# Altium schematic symbol library AmbiqPhoenix.SCHLIB: 36 symbols
Pins are listed as number, name and electrical type; pins without a type are passive.

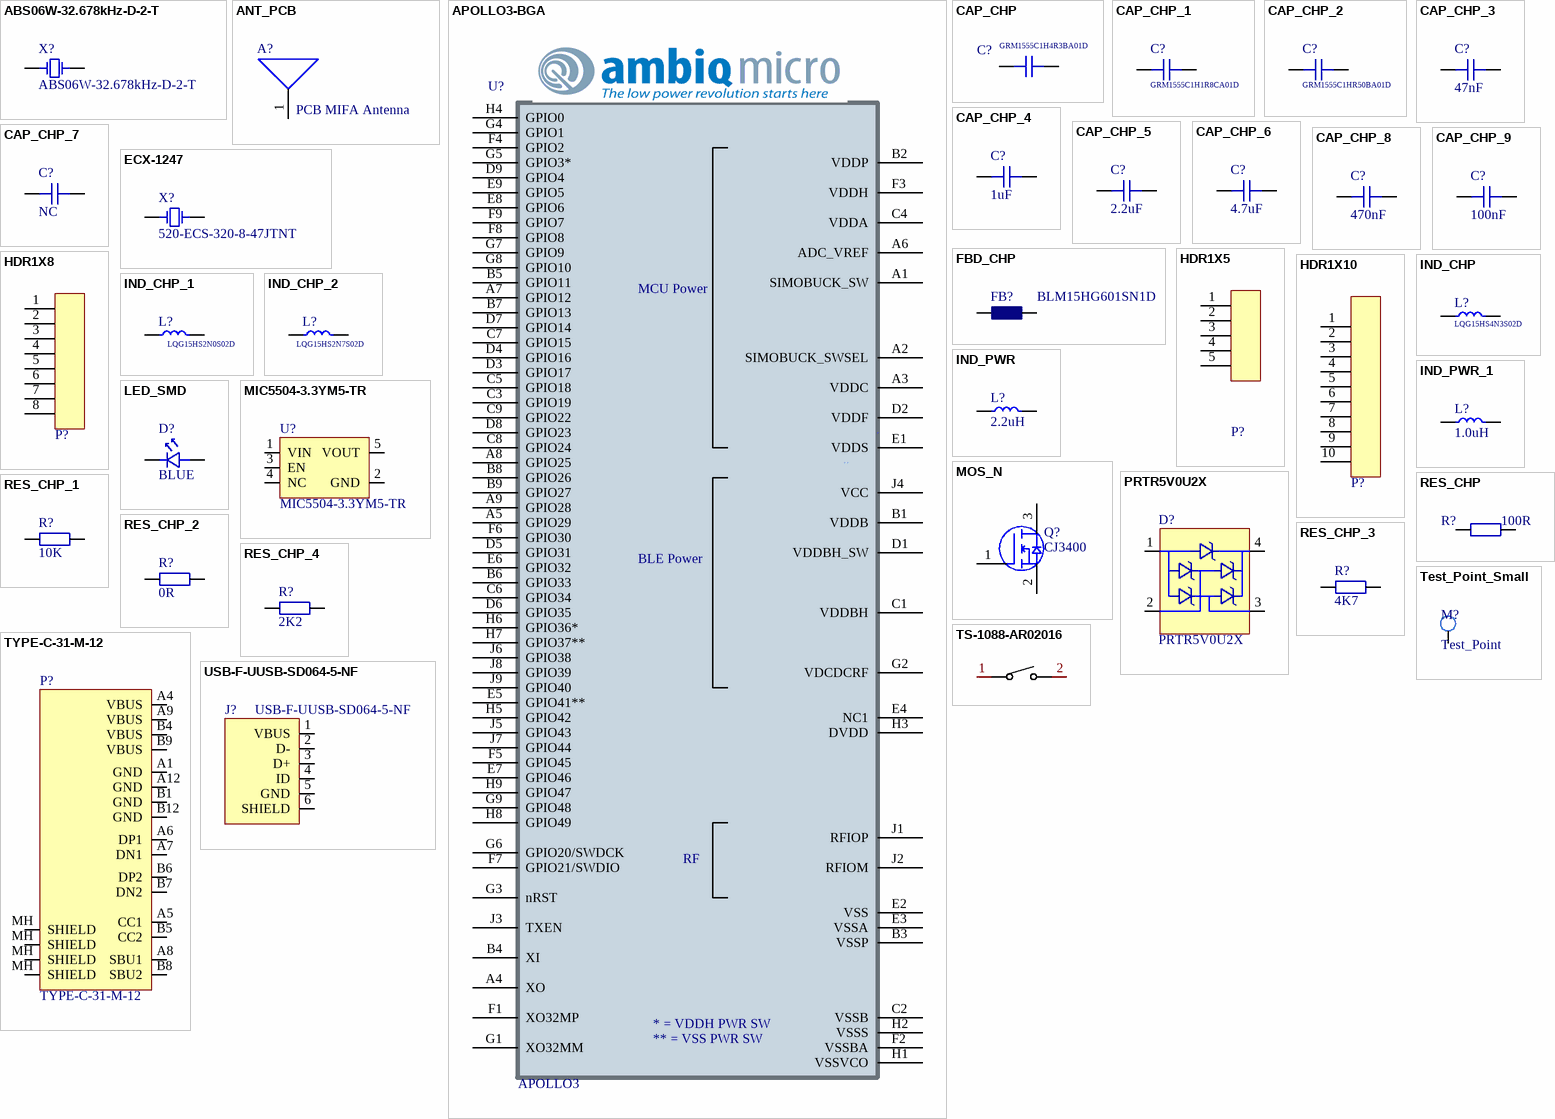
[diagram p0: symbols ABS06W-32.678kHz-D-2-T to USB-F-UUSB-SD064-5-NF]

## ABS06W-32.678kHz-D-2-T
designator X?
32.768KHZ IoT OPTIMIZED SMD CRYSTA
footprint ABS06W
pins: 1, 2

## ANT_PCB
designator A?, comment PCB MIFA Antenna  (net tie, no BOM)
2.4G Printed Antenna
footprint MIFA_ANTENNA
footprint IFA (Wonderful Antenna Sandbox Electronics Patent Pending)
footprint IFA_CC2530 (2.4GHz Inverted F Antenna)
footprint MIFA_CC2530
footprint MIFA_AMBIQ
pins: 1

## APOLLO3-BGA
designator U?, comment APOLLO3
APOLLO3-BGA; Manufacturer: Ambiq Micro; Part Number: APOLLO3; Value: APOLLO3
footprint BGA81C50P9X9_500X500X80
pins: A1 SIMOBUCK_SW, A2 SIMOBUCK_SWSEL, A3 VDDC, A4 XO, A5 GPIO29, A6 ADC_VREF, A7 GPIO12, A8 GPIO25, A9 GPIO28, B1 VDDB, B2 VDDP, B3 VSSP, B4 XI, B5 GPIO11, B6 GPIO33, B7 GPIO13, B8 GPIO26, B9 GPIO27, C1 VDDBH, C2 VSSB, C3 GPIO19, C4 VDDA, C5 GPIO18, C6 GPIO34, C7 GPIO15, C8 GPIO24, C9 GPIO22, D1 VDDBH_SW, D2 VDDF, D3 GPIO17, D4 GPIO16, D5 GPIO31, D6 GPIO35, D7 GPIO14, D8 GPIO23, D9 GPIO4, E1 VDDS, E2 VSS, E3 VSSA, E4 NC1, E5 GPIO41**, E6 GPIO32, E7 GPIO46, E8 GPIO6, E9 GPIO5, F1 XO32MP, F2 VSSBA, F3 VDDH, F4 GPIO2, F5 GPIO45, F6 GPIO30, F7 GPIO21/SWDIO, F8 GPIO8, F9 GPIO7, G1 XO32MM, G2 VDCDCRF, G3 nRST, G4 GPIO1, G5 GPIO3*, G6 GPIO20/SWDCK, G7 GPIO9, G8 GPIO10, G9 GPIO48, H1 VSSVCO, H2 VSSS, H3 DVDD, H4 GPIO0, H5 GPIO42, H6 GPIO36*, H7 GPIO37**, H8 GPIO49, H9 GPIO47, J1 RFIOP, J2 RFIOM, J3 TXEN, J4 VCC, J5 GPIO43, J6 GPIO38, J7 GPIO44, J8 GPIO39, J9 GPIO40
text: MCU Power; BLE Power; RF; * = VDDH PWR SW; ** = VSS PWR SW

## CAP_CHP
designator C?, comment GRM1555C1H4R3BA01D
Surface Mount Unpolarized Capacitor
footprint CAPC1608L (Chip Capacitor, Body 1.6x0.8mm, IPC High Density)
footprint CAPC1608M (Chip Capacitor, Body 1.6x0.8mm, IPC Low Density)
footprint CAPC1608N (Chip Capacitor, Body 1.6x0.8mm, IPC Medium Density)
footprint CAPC2012L (Chip Capacitor, Body 2.0x1.3mm, IPC High Density)
footprint CAPC2012M (Chip Capacitor, Body 2.0x1.3mm, IPC Low Density)
footprint CAPC2012N (Chip Capacitor, Body 2.0x1.3mm, IPC Medium Density)
footprint CAPC3216L (Chip Capacitor, Body 3.2x1.6mm, IPC High Density)
footprint CAPC3216M (Chip Capacitor, Body 3.2x1.6mm, IPC Low Density)
footprint CAPC3216N (Chip Capacitor, Body 3.2x1.6mm, IPC Medium Density)
footprint CAPC3225L (Chip Capacitor, Body 3.2x2.5mm, IPC High Density)
footprint CAPC3225M (Chip Capacitor, Body 3.2x2.5mm, IPC Low Density)
footprint CAPC3225N (Chip Capacitor, Body 3.2x2.5mm, IPC Medium Density)
footprint CAPC1005L (Chip Capacitor, Body 1.0x0.5mm, IPC High Density)
footprint CAPC1005M (Chip Capacitor, Body 1.0x0.5mm, IPC Low Density)
footprint CAPC1005N (Chip Capacitor, Body 1.0x0.5mm, IPC Medium Density)
footprint ECHU1608
footprint ECHU2012
footprint ECWU3216
footprint CAPC4532L (Chip Capacitor, Body 4.5x3.2mm, IPC High Density)
footprint CAPC4532M (Chip Capacitor, Body 4.5x3.2mm, IPC Low Density)
footprint CAPC4532N (Chip Capacitor, Body 4.5x3.2mm, IPC Medium Density)
pins: 1, 2

## CAP_CHP_1
designator C?, comment GRM1555C1H1R8CA01D
Surface Mount Unpolarized Capacitor
footprint CAPC1608L (Chip Capacitor, Body 1.6x0.8mm, IPC High Density)
footprint CAPC1608M (Chip Capacitor, Body 1.6x0.8mm, IPC Low Density)
footprint CAPC1608N (Chip Capacitor, Body 1.6x0.8mm, IPC Medium Density)
footprint CAPC2012L (Chip Capacitor, Body 2.0x1.3mm, IPC High Density)
footprint CAPC2012M (Chip Capacitor, Body 2.0x1.3mm, IPC Low Density)
footprint CAPC2012N (Chip Capacitor, Body 2.0x1.3mm, IPC Medium Density)
footprint CAPC3216L (Chip Capacitor, Body 3.2x1.6mm, IPC High Density)
footprint CAPC3216M (Chip Capacitor, Body 3.2x1.6mm, IPC Low Density)
footprint CAPC3216N (Chip Capacitor, Body 3.2x1.6mm, IPC Medium Density)
footprint CAPC3225L (Chip Capacitor, Body 3.2x2.5mm, IPC High Density)
footprint CAPC3225M (Chip Capacitor, Body 3.2x2.5mm, IPC Low Density)
footprint CAPC3225N (Chip Capacitor, Body 3.2x2.5mm, IPC Medium Density)
footprint CAPC1005L (Chip Capacitor, Body 1.0x0.5mm, IPC High Density)
footprint CAPC1005M (Chip Capacitor, Body 1.0x0.5mm, IPC Low Density)
footprint CAPC1005N (Chip Capacitor, Body 1.0x0.5mm, IPC Medium Density)
footprint ECHU1608
footprint ECHU2012
footprint ECWU3216
footprint CAPC4532L (Chip Capacitor, Body 4.5x3.2mm, IPC High Density)
footprint CAPC4532M (Chip Capacitor, Body 4.5x3.2mm, IPC Low Density)
footprint CAPC4532N (Chip Capacitor, Body 4.5x3.2mm, IPC Medium Density)
pins: 1, 2

## CAP_CHP_2
designator C?, comment GRM1555C1HR50BA01D
Surface Mount Unpolarized Capacitor
footprint CAPC1608L (Chip Capacitor, Body 1.6x0.8mm, IPC High Density)
footprint CAPC1608M (Chip Capacitor, Body 1.6x0.8mm, IPC Low Density)
footprint CAPC1608N (Chip Capacitor, Body 1.6x0.8mm, IPC Medium Density)
footprint CAPC2012L (Chip Capacitor, Body 2.0x1.3mm, IPC High Density)
footprint CAPC2012M (Chip Capacitor, Body 2.0x1.3mm, IPC Low Density)
footprint CAPC2012N (Chip Capacitor, Body 2.0x1.3mm, IPC Medium Density)
footprint CAPC3216L (Chip Capacitor, Body 3.2x1.6mm, IPC High Density)
footprint CAPC3216M (Chip Capacitor, Body 3.2x1.6mm, IPC Low Density)
footprint CAPC3216N (Chip Capacitor, Body 3.2x1.6mm, IPC Medium Density)
footprint CAPC3225L (Chip Capacitor, Body 3.2x2.5mm, IPC High Density)
footprint CAPC3225M (Chip Capacitor, Body 3.2x2.5mm, IPC Low Density)
footprint CAPC3225N (Chip Capacitor, Body 3.2x2.5mm, IPC Medium Density)
footprint CAPC1005L (Chip Capacitor, Body 1.0x0.5mm, IPC High Density)
footprint CAPC1005M (Chip Capacitor, Body 1.0x0.5mm, IPC Low Density)
footprint CAPC1005N (Chip Capacitor, Body 1.0x0.5mm, IPC Medium Density)
footprint ECHU1608
footprint ECHU2012
footprint ECWU3216
footprint CAPC4532L (Chip Capacitor, Body 4.5x3.2mm, IPC High Density)
footprint CAPC4532M (Chip Capacitor, Body 4.5x3.2mm, IPC Low Density)
footprint CAPC4532N (Chip Capacitor, Body 4.5x3.2mm, IPC Medium Density)
pins: 1, 2

## CAP_CHP_3
designator C?, comment 47nF
Surface Mount Unpolarized Capacitor
footprint CAPC1608L (Chip Capacitor, Body 1.6x0.8mm, IPC High Density)
footprint CAPC1608M (Chip Capacitor, Body 1.6x0.8mm, IPC Low Density)
footprint CAPC1608N (Chip Capacitor, Body 1.6x0.8mm, IPC Medium Density)
footprint CAPC2012L (Chip Capacitor, Body 2.0x1.3mm, IPC High Density)
footprint CAPC2012M (Chip Capacitor, Body 2.0x1.3mm, IPC Low Density)
footprint CAPC2012N (Chip Capacitor, Body 2.0x1.3mm, IPC Medium Density)
footprint CAPC3216L (Chip Capacitor, Body 3.2x1.6mm, IPC High Density)
footprint CAPC3216M (Chip Capacitor, Body 3.2x1.6mm, IPC Low Density)
footprint CAPC3216N (Chip Capacitor, Body 3.2x1.6mm, IPC Medium Density)
footprint CAPC3225L (Chip Capacitor, Body 3.2x2.5mm, IPC High Density)
footprint CAPC3225M (Chip Capacitor, Body 3.2x2.5mm, IPC Low Density)
footprint CAPC3225N (Chip Capacitor, Body 3.2x2.5mm, IPC Medium Density)
footprint CAPC1005L (Chip Capacitor, Body 1.0x0.5mm, IPC High Density)
footprint CAPC1005M (Chip Capacitor, Body 1.0x0.5mm, IPC Low Density)
footprint CAPC1005N (Chip Capacitor, Body 1.0x0.5mm, IPC Medium Density)
footprint ECHU1608
footprint ECHU2012
footprint ECWU3216
footprint CAPC4532L (Chip Capacitor, Body 4.5x3.2mm, IPC High Density)
footprint CAPC4532M (Chip Capacitor, Body 4.5x3.2mm, IPC Low Density)
footprint CAPC4532N (Chip Capacitor, Body 4.5x3.2mm, IPC Medium Density)
footprint CAPC0603L (Chip Capacitor, Body 1.0x0.5mm, IPC High Density)
footprint CAPC0603M (Chip Capacitor, Body 1.0x0.5mm, IPC Low  Density)
footprint CAPC0603N (Chip Capacitor, Body 1.0x0.5mm, IPC Medium Density)
pins: 1, 2

## CAP_CHP_4
designator C?, comment 1uF
Surface Mount Unpolarized Capacitor
footprint CAPC1608L (Chip Capacitor, Body 1.6x0.8mm, IPC High Density)
footprint CAPC1608M (Chip Capacitor, Body 1.6x0.8mm, IPC Low Density)
footprint CAPC1608N (Chip Capacitor, Body 1.6x0.8mm, IPC Medium Density)
footprint CAPC2012L (Chip Capacitor, Body 2.0x1.3mm, IPC High Density)
footprint CAPC2012M (Chip Capacitor, Body 2.0x1.3mm, IPC Low Density)
footprint CAPC2012N (Chip Capacitor, Body 2.0x1.3mm, IPC Medium Density)
footprint CAPC3216L (Chip Capacitor, Body 3.2x1.6mm, IPC High Density)
footprint CAPC3216M (Chip Capacitor, Body 3.2x1.6mm, IPC Low Density)
footprint CAPC3216N (Chip Capacitor, Body 3.2x1.6mm, IPC Medium Density)
footprint CAPC3225L (Chip Capacitor, Body 3.2x2.5mm, IPC High Density)
footprint CAPC3225M (Chip Capacitor, Body 3.2x2.5mm, IPC Low Density)
footprint CAPC3225N (Chip Capacitor, Body 3.2x2.5mm, IPC Medium Density)
footprint CAPC1005L (Chip Capacitor, Body 1.0x0.5mm, IPC High Density)
footprint CAPC1005M (Chip Capacitor, Body 1.0x0.5mm, IPC Low Density)
footprint CAPC1005N (Chip Capacitor, Body 1.0x0.5mm, IPC Medium Density)
footprint ECHU1608
footprint ECHU2012
footprint ECWU3216
footprint CAPC4532L (Chip Capacitor, Body 4.5x3.2mm, IPC High Density)
footprint CAPC4532M (Chip Capacitor, Body 4.5x3.2mm, IPC Low Density)
footprint CAPC4532N (Chip Capacitor, Body 4.5x3.2mm, IPC Medium Density)
footprint CAPC0603L (Chip Capacitor, Body 1.0x0.5mm, IPC High Density)
footprint CAPC0603M (Chip Capacitor, Body 1.0x0.5mm, IPC Low  Density)
footprint CAPC0603N (Chip Capacitor, Body 1.0x0.5mm, IPC Medium Density)
pins: 1, 2

## CAP_CHP_5
designator C?, comment 2.2uF
Surface Mount Unpolarized Capacitor
footprint CAPC1608L (Chip Capacitor, Body 1.6x0.8mm, IPC High Density)
footprint CAPC1608M (Chip Capacitor, Body 1.6x0.8mm, IPC Low Density)
footprint CAPC1608N (Chip Capacitor, Body 1.6x0.8mm, IPC Medium Density)
footprint CAPC2012L (Chip Capacitor, Body 2.0x1.3mm, IPC High Density)
footprint CAPC2012M (Chip Capacitor, Body 2.0x1.3mm, IPC Low Density)
footprint CAPC2012N (Chip Capacitor, Body 2.0x1.3mm, IPC Medium Density)
footprint CAPC3216L (Chip Capacitor, Body 3.2x1.6mm, IPC High Density)
footprint CAPC3216M (Chip Capacitor, Body 3.2x1.6mm, IPC Low Density)
footprint CAPC3216N (Chip Capacitor, Body 3.2x1.6mm, IPC Medium Density)
footprint CAPC3225L (Chip Capacitor, Body 3.2x2.5mm, IPC High Density)
footprint CAPC3225M (Chip Capacitor, Body 3.2x2.5mm, IPC Low Density)
footprint CAPC3225N (Chip Capacitor, Body 3.2x2.5mm, IPC Medium Density)
footprint CAPC1005L (Chip Capacitor, Body 1.0x0.5mm, IPC High Density)
footprint CAPC1005M (Chip Capacitor, Body 1.0x0.5mm, IPC Low Density)
footprint CAPC1005N (Chip Capacitor, Body 1.0x0.5mm, IPC Medium Density)
footprint ECHU1608
footprint ECHU2012
footprint ECWU3216
footprint CAPC4532L (Chip Capacitor, Body 4.5x3.2mm, IPC High Density)
footprint CAPC4532M (Chip Capacitor, Body 4.5x3.2mm, IPC Low Density)
footprint CAPC4532N (Chip Capacitor, Body 4.5x3.2mm, IPC Medium Density)
footprint CAPC0603L (Chip Capacitor, Body 1.0x0.5mm, IPC High Density)
footprint CAPC0603M (Chip Capacitor, Body 1.0x0.5mm, IPC Low  Density)
footprint CAPC0603N (Chip Capacitor, Body 1.0x0.5mm, IPC Medium Density)
pins: 1, 2

## CAP_CHP_6
designator C?, comment 4.7uF
Surface Mount Unpolarized Capacitor
footprint CAPC1608L (Chip Capacitor, Body 1.6x0.8mm, IPC High Density)
footprint CAPC1608M (Chip Capacitor, Body 1.6x0.8mm, IPC Low Density)
footprint CAPC1608N (Chip Capacitor, Body 1.6x0.8mm, IPC Medium Density)
footprint CAPC2012L (Chip Capacitor, Body 2.0x1.3mm, IPC High Density)
footprint CAPC2012M (Chip Capacitor, Body 2.0x1.3mm, IPC Low Density)
footprint CAPC2012N (Chip Capacitor, Body 2.0x1.3mm, IPC Medium Density)
footprint CAPC3216L (Chip Capacitor, Body 3.2x1.6mm, IPC High Density)
footprint CAPC3216M (Chip Capacitor, Body 3.2x1.6mm, IPC Low Density)
footprint CAPC3216N (Chip Capacitor, Body 3.2x1.6mm, IPC Medium Density)
footprint CAPC3225L (Chip Capacitor, Body 3.2x2.5mm, IPC High Density)
footprint CAPC3225M (Chip Capacitor, Body 3.2x2.5mm, IPC Low Density)
footprint CAPC3225N (Chip Capacitor, Body 3.2x2.5mm, IPC Medium Density)
footprint CAPC1005L (Chip Capacitor, Body 1.0x0.5mm, IPC High Density)
footprint CAPC1005M (Chip Capacitor, Body 1.0x0.5mm, IPC Low Density)
footprint CAPC1005N (Chip Capacitor, Body 1.0x0.5mm, IPC Medium Density)
footprint ECHU1608
footprint ECHU2012
footprint ECWU3216
footprint CAPC4532L (Chip Capacitor, Body 4.5x3.2mm, IPC High Density)
footprint CAPC4532M (Chip Capacitor, Body 4.5x3.2mm, IPC Low Density)
footprint CAPC4532N (Chip Capacitor, Body 4.5x3.2mm, IPC Medium Density)
footprint CAPC0603L (Chip Capacitor, Body 1.0x0.5mm, IPC High Density)
footprint CAPC0603M (Chip Capacitor, Body 1.0x0.5mm, IPC Low  Density)
footprint CAPC0603N (Chip Capacitor, Body 1.0x0.5mm, IPC Medium Density)
pins: 1, 2

## CAP_CHP_7
designator C?, comment NC
Surface Mount Unpolarized Capacitor
footprint CAPC1608L (Chip Capacitor, Body 1.6x0.8mm, IPC High Density)
footprint CAPC1608M (Chip Capacitor, Body 1.6x0.8mm, IPC Low Density)
footprint CAPC1608N (Chip Capacitor, Body 1.6x0.8mm, IPC Medium Density)
footprint CAPC2012L (Chip Capacitor, Body 2.0x1.3mm, IPC High Density)
footprint CAPC2012M (Chip Capacitor, Body 2.0x1.3mm, IPC Low Density)
footprint CAPC2012N (Chip Capacitor, Body 2.0x1.3mm, IPC Medium Density)
footprint CAPC3216L (Chip Capacitor, Body 3.2x1.6mm, IPC High Density)
footprint CAPC3216M (Chip Capacitor, Body 3.2x1.6mm, IPC Low Density)
footprint CAPC3216N (Chip Capacitor, Body 3.2x1.6mm, IPC Medium Density)
footprint CAPC3225L (Chip Capacitor, Body 3.2x2.5mm, IPC High Density)
footprint CAPC3225M (Chip Capacitor, Body 3.2x2.5mm, IPC Low Density)
footprint CAPC3225N (Chip Capacitor, Body 3.2x2.5mm, IPC Medium Density)
footprint CAPC1005L (Chip Capacitor, Body 1.0x0.5mm, IPC High Density)
footprint CAPC1005M (Chip Capacitor, Body 1.0x0.5mm, IPC Low Density)
footprint CAPC1005N (Chip Capacitor, Body 1.0x0.5mm, IPC Medium Density)
footprint ECHU1608
footprint ECHU2012
footprint ECWU3216
footprint CAPC4532L (Chip Capacitor, Body 4.5x3.2mm, IPC High Density)
footprint CAPC4532M (Chip Capacitor, Body 4.5x3.2mm, IPC Low Density)
footprint CAPC4532N (Chip Capacitor, Body 4.5x3.2mm, IPC Medium Density)
footprint CAPC0603L (Chip Capacitor, Body 1.0x0.5mm, IPC High Density)
footprint CAPC0603M (Chip Capacitor, Body 1.0x0.5mm, IPC Low  Density)
footprint CAPC0603N (Chip Capacitor, Body 1.0x0.5mm, IPC Medium Density)
pins: 1, 2

## CAP_CHP_8
designator C?, comment 470nF
Surface Mount Unpolarized Capacitor
footprint CAPC1608L (Chip Capacitor, Body 1.6x0.8mm, IPC High Density)
footprint CAPC1608M (Chip Capacitor, Body 1.6x0.8mm, IPC Low Density)
footprint CAPC1608N (Chip Capacitor, Body 1.6x0.8mm, IPC Medium Density)
footprint CAPC2012L (Chip Capacitor, Body 2.0x1.3mm, IPC High Density)
footprint CAPC2012M (Chip Capacitor, Body 2.0x1.3mm, IPC Low Density)
footprint CAPC2012N (Chip Capacitor, Body 2.0x1.3mm, IPC Medium Density)
footprint CAPC3216L (Chip Capacitor, Body 3.2x1.6mm, IPC High Density)
footprint CAPC3216M (Chip Capacitor, Body 3.2x1.6mm, IPC Low Density)
footprint CAPC3216N (Chip Capacitor, Body 3.2x1.6mm, IPC Medium Density)
footprint CAPC3225L (Chip Capacitor, Body 3.2x2.5mm, IPC High Density)
footprint CAPC3225M (Chip Capacitor, Body 3.2x2.5mm, IPC Low Density)
footprint CAPC3225N (Chip Capacitor, Body 3.2x2.5mm, IPC Medium Density)
footprint CAPC1005L (Chip Capacitor, Body 1.0x0.5mm, IPC High Density)
footprint CAPC1005M (Chip Capacitor, Body 1.0x0.5mm, IPC Low Density)
footprint CAPC1005N (Chip Capacitor, Body 1.0x0.5mm, IPC Medium Density)
footprint ECHU1608
footprint ECHU2012
footprint ECWU3216
footprint CAPC4532L (Chip Capacitor, Body 4.5x3.2mm, IPC High Density)
footprint CAPC4532M (Chip Capacitor, Body 4.5x3.2mm, IPC Low Density)
footprint CAPC4532N (Chip Capacitor, Body 4.5x3.2mm, IPC Medium Density)
footprint CAPC0603L (Chip Capacitor, Body 1.0x0.5mm, IPC High Density)
footprint CAPC0603M (Chip Capacitor, Body 1.0x0.5mm, IPC Low  Density)
footprint CAPC0603N (Chip Capacitor, Body 1.0x0.5mm, IPC Medium Density)
pins: 1, 2

## CAP_CHP_9
designator C?, comment 100nF
Surface Mount Unpolarized Capacitor
footprint CAPC1608L (Chip Capacitor, Body 1.6x0.8mm, IPC High Density)
footprint CAPC1608M (Chip Capacitor, Body 1.6x0.8mm, IPC Low Density)
footprint CAPC1608N (Chip Capacitor, Body 1.6x0.8mm, IPC Medium Density)
footprint CAPC2012L (Chip Capacitor, Body 2.0x1.3mm, IPC High Density)
footprint CAPC2012M (Chip Capacitor, Body 2.0x1.3mm, IPC Low Density)
footprint CAPC2012N (Chip Capacitor, Body 2.0x1.3mm, IPC Medium Density)
footprint CAPC3216L (Chip Capacitor, Body 3.2x1.6mm, IPC High Density)
footprint CAPC3216M (Chip Capacitor, Body 3.2x1.6mm, IPC Low Density)
footprint CAPC3216N (Chip Capacitor, Body 3.2x1.6mm, IPC Medium Density)
footprint CAPC3225L (Chip Capacitor, Body 3.2x2.5mm, IPC High Density)
footprint CAPC3225M (Chip Capacitor, Body 3.2x2.5mm, IPC Low Density)
footprint CAPC3225N (Chip Capacitor, Body 3.2x2.5mm, IPC Medium Density)
footprint CAPC1005L (Chip Capacitor, Body 1.0x0.5mm, IPC High Density)
footprint CAPC1005M (Chip Capacitor, Body 1.0x0.5mm, IPC Low Density)
footprint CAPC1005N (Chip Capacitor, Body 1.0x0.5mm, IPC Medium Density)
footprint ECHU1608
footprint ECHU2012
footprint ECWU3216
footprint CAPC4532L (Chip Capacitor, Body 4.5x3.2mm, IPC High Density)
footprint CAPC4532M (Chip Capacitor, Body 4.5x3.2mm, IPC Low Density)
footprint CAPC4532N (Chip Capacitor, Body 4.5x3.2mm, IPC Medium Density)
pins: 1, 2

## ECX-1247
designator X?, comment 520-ECS-320-8-47JTNT
XTAL 32MHZ 8pF 20ppm  1.6mm x 1.2mm x 0.35mm SMT
footprint ECX-1247
pins: 1, 2 GND hidden to GND, 3, 4 GND hidden to GND

## FBD_CHP
designator FB?, comment BLM15HG601SN1D
Surface Mount Ferrite Bead
footprint FBDC1005L (Ferrite Bead, Body 1.1x0.5mm, IPC High Density)
footprint FBDC1005M (Ferrite Bead, Body 1.1x0.5mm, IPC Low Density)
footprint FBDC1005N (Ferrite Bead, Body 1.1x0.5mm, IPC Medium Density)
footprint FBDC1608L (Ferrite Bead, Body 1.6x0.8mm, IPC High Density)
footprint FBDC1608M (Ferrite Bead, Body 1.6x0.8mm, IPC Low Density)
footprint FBDC1608N (Ferrite Bead, Body 1.6x0.8mm, IPC Medium Density)
footprint FBDC2012L (Ferrite Bead, Body 2.0x1.3mm, IPC High Density)
footprint FBDC2012M (Ferrite Bead, Body 2.0x1.3mm, IPC Low Density)
footprint FBDC2012N (Ferrite Bead, Body 2.0x1.3mm, IPC Medium Density)
footprint FBDC3216L (Ferrite Bead, Body 3.2x1.6mm, IPC High Density)
footprint FBDC3216M (Ferrite Bead, Body 3.2x1.6mm, IPC Low Density)
footprint FBDC3216N (Ferrite Bead, Body 3.2x1.6mm, IPC Medium Density)
pins: 1, 2

## HDR1X5
designator P?, comment Header 1X8  (value not drawn)  (no BOM)
footprint HEADER1X5
pins: 1, 2, 3, 4, 5

## HDR1X8
designator P?, comment Header 1X8  (value not drawn)  (no BOM)
footprint HEADER1X8
pins: 1, 2, 3, 4, 5, 6, 7, 8

## HDR1X10
designator P?, comment Header 1X10  (value not drawn)  (no BOM)
footprint HEADER1X10
pins: 1, 2, 3, 4, 5, 6, 7, 8, 9, 10

## IND_CHP
designator L?, comment LQG15HS4N3S02D
Chip Inductor
footprint INDC1005L (Chip Inductor, Body 1.0x0.5mm, IPC High Density)
footprint INDC1005M (Chip Inductor, Body 1.0x0.5mm, IPC Low Density)
footprint INDC1005N (Chip Inductor, Body 1.0x0.5mm, IPC Medium Density)
footprint INDC3216N (Chip Inductor, Body 3.2x1.6mm, IPC Medium Density)
footprint INDC3216L (Chip Inductor, Body 3.2x1.6mm, IPC High Density)
footprint INDC3216M (Chip Inductor, Body 3.2x1.6mm, IPC Low Density)
footprint INDC1608L (Chip Inductor, Body 1.6x0.8mm, IPC High Density)
footprint INDC1608M (Chip Inductor, Body 1.6x0.8mm, IPC Low Density)
footprint INDC1608N (Chip Inductor, Body 1.6x0.8mm, IPC Medium Density)
footprint INDC3225N (Chip Inductor, Body 3.2x2.5mm, IPC Medium Density)
footprint INDC3225M (Chip Inductor, Body 3.2x2.5mm, IPC Low Density)
footprint INDC3225L (Chip Inductor, Body 3.2x2.5mm, IPC High Density)
pins: 1, 2

## IND_CHP_1
designator L?, comment LQG15HS2N0S02D
Chip Inductor
footprint INDC1005L (Chip Inductor, Body 1.0x0.5mm, IPC High Density)
footprint INDC1005M (Chip Inductor, Body 1.0x0.5mm, IPC Low Density)
footprint INDC1005N (Chip Inductor, Body 1.0x0.5mm, IPC Medium Density)
footprint INDC3216N (Chip Inductor, Body 3.2x1.6mm, IPC Medium Density)
footprint INDC3216L (Chip Inductor, Body 3.2x1.6mm, IPC High Density)
footprint INDC3216M (Chip Inductor, Body 3.2x1.6mm, IPC Low Density)
footprint INDC1608L (Chip Inductor, Body 1.6x0.8mm, IPC High Density)
footprint INDC1608M (Chip Inductor, Body 1.6x0.8mm, IPC Low Density)
footprint INDC1608N (Chip Inductor, Body 1.6x0.8mm, IPC Medium Density)
footprint INDC3225N (Chip Inductor, Body 3.2x2.5mm, IPC Medium Density)
footprint INDC3225M (Chip Inductor, Body 3.2x2.5mm, IPC Low Density)
footprint INDC3225L (Chip Inductor, Body 3.2x2.5mm, IPC High Density)
pins: 1, 2

## IND_CHP_2
designator L?, comment LQG15HS2N7S02D
Chip Inductor
footprint INDC1005L (Chip Inductor, Body 1.0x0.5mm, IPC High Density)
footprint INDC1005M (Chip Inductor, Body 1.0x0.5mm, IPC Low Density)
footprint INDC1005N (Chip Inductor, Body 1.0x0.5mm, IPC Medium Density)
footprint INDC3216N (Chip Inductor, Body 3.2x1.6mm, IPC Medium Density)
footprint INDC3216L (Chip Inductor, Body 3.2x1.6mm, IPC High Density)
footprint INDC3216M (Chip Inductor, Body 3.2x1.6mm, IPC Low Density)
footprint INDC1608L (Chip Inductor, Body 1.6x0.8mm, IPC High Density)
footprint INDC1608M (Chip Inductor, Body 1.6x0.8mm, IPC Low Density)
footprint INDC1608N (Chip Inductor, Body 1.6x0.8mm, IPC Medium Density)
footprint INDC3225N (Chip Inductor, Body 3.2x2.5mm, IPC Medium Density)
footprint INDC3225M (Chip Inductor, Body 3.2x2.5mm, IPC Low Density)
footprint INDC3225L (Chip Inductor, Body 3.2x2.5mm, IPC High Density)
pins: 1, 2

## IND_PWR
designator L?, comment 2.2uH
DFE201610E-2R2M=P2
footprint Inductor
footprint PWRIND_SWPA3015S (Sunloardic SMT Inductor SWPA3015S Series)
footprint CDRH74 (SMD Power Inductor 7.5x7.5x4.5mm)
footprint PWRIND_SWRH2D14R
footprint PWRIND_SDRH104R
footprint PWRIND_SWRH4D28S
footprint PWRIND_SWPA252012S
footprint PWRIND_SWRH5D28S
footprint PWRIND_WE-LHMI
footprint LPS3015
footprint PWRIND_0630
footprint PWRIND_0520
footprint PWRIND_CDRH125
footprint DEF201610E
footprint BRC2012
footprint DFE18SAN
pins: 1, 2

## IND_PWR_1
designator L?, comment 1.0uH
DFE18SAN1R0MG0L
footprint Inductor
footprint PWRIND_SWPA3015S (Sunloardic SMT Inductor SWPA3015S Series)
footprint CDRH74 (SMD Power Inductor 7.5x7.5x4.5mm)
footprint PWRIND_SWRH2D14R
footprint PWRIND_SDRH104R
footprint PWRIND_SWRH4D28S
footprint PWRIND_SWPA252012S
footprint PWRIND_SWRH5D28S
footprint PWRIND_WE-LHMI
footprint LPS3015
footprint PWRIND_0630
footprint PWRIND_0520
footprint PWRIND_CDRH125
footprint DEF201610E
footprint BRC2012
footprint DFE18SAN
pins: 1, 2

## LED_SMD
designator D?, comment BLUE
Surface Mount LED
footprint LEDC1608L (Chip LED, Body 1.6x0.8mm, IPC High Density)
footprint LEDC1608M (Chip LED, Body 1.6x0.8mm, IPC Low Density)
footprint LEDC1608N (Chip LED, Body 1.6x0.8mm, IPC Medium Density)
footprint LEDC2012L (Chip LED, Body 2.0x1.3mm, IPC High Density)
footprint LEDC2012M (LED Resistor, Body 2.0x1.3mm, IPC Low Density)
footprint LEDC2012N (Chip LED, Body 2.0x1.3mm, IPC Medium Density)
footprint LED3528
footprint LEDC1005L (Chip LED, Body 1.1x0.5mm, IPC High Density)
footprint LEDC1005M (Chip LED, Body 1.1x0.5mm, IPC Low Density)
footprint LEDC1005N (Chip LED,  Body 1.1x0.5mm, IPC Medium Density)
footprint LEDC3215SN
pins: 1, 2

## MIC5504-3.3YM5-TR
designator U?
Linear Voltage Regulator Positive Fixed 1 Output 3.3V 300mA SOT-23-5
footprint SOT23-5_L (SOT23, 5-Leads, Body 2.9x1.6mm, Pitch 0.95mm, Lead Span 2.8mm, IPC High Density)
footprint SOT23-5_M (SOT23, 5-Leads, Body 2.9x1.6mm, Pitch 0.95mm, Lead Span 2.8mm, IPC Low Density)
footprint SOT23-5_N (SOT23, 5-Leads, Body 2.9x1.6mm, Pitch 0.95mm, Lead Span 2.8mm, IPC Medium Density)
pins: 1 VIN, 2 GND, 3 EN, 4 NC, 5 VOUT

## MOS_N
designator Q?, comment CJ3400
N-Channel MOSFET
footprint SOT23-3L (SOT23, 3-Leads, Body 2.9x1.3mm, Pitch 0.95mm, Lead Span 2.5mm, IPC High Density)
footprint SOT23-3M (SOT23, 3-Leads, Body 2.9x1.3mm, Pitch 0.95mm, Lead Span 2.5mm, IPC Low Density)
footprint SOT23-3N (SOT23, 3-Leads, Body 2.9x1.3mm, Pitch 0.95mm, Lead Span 2.5mm, IPC Medium Density)
footprint TO252-3L (D-PAK, 4-Leads, Body 6.1x6.5mm, Pitch 2.28mm, Lead Span 9.7mm, IPC High Density)
footprint TO252-3M (D-PAK, 4-Leads, Body 6.1x6.5mm, Pitch 2.28mm, Lead Span 9.7mm, IPC Low Density)
footprint TO252-3N (D-PAK, 4-Leads, Body 6.1x6.5mm, Pitch 2.28mm, Lead Span 9.7mm, IPC Medium Density)
footprint X2-DFN1006-3
pins: 1, 2, 3

## PRTR5V0U2X
designator D?
Ultra low capacitance double rail-to-rail ESD protection diode
footprint SOT143L (SOT143, 4-Leads, Body 2.9x1.3mm, Pitch 1.9mm, Lead Span 2.5mm, IPC High Density)
footprint SOT143M (SOT143, 4-Leads, Body 2.9x1.3mm, Pitch 1.9mm, Lead Span 2.5mm, IPC Low Density)
footprint SOT143N (SOT143, 4-Leads, Body 2.9x1.3mm, Pitch 1.9mm, Lead Span 2.5mm, IPC Medium Density)
pins: 1, 2, 3, 4

## RES_CHP
designator R?, comment 100R
Surface Mount Resistor
footprint RESC2012L (Chip Resistor, Body 2.0x1.3mm, IPC High Density)
footprint RESC2012M (Chip Resistor, Body 2.0x1.3mm, IPC Low Density)
footprint RESC2012N (Chip Resistor, Body 2.0x1.3mm, IPC Medium Density)
footprint RESC1608L (Chip Resistor, Body 1.6x0.8mm, IPC High Density)
footprint RESC1608M (Chip Resistor, Body 1.6x0.8mm, IPC Low Density)
footprint RESC1608N (Chip Resistor, Body 1.6x0.8mm, IPC Medium Density)
footprint RESC3216L (Chip Resistor, Body 3.2x1.6mm, IPC High Density)
footprint RESC3216M (Chip Resistor, Body 3.2x1.6mm, IPC Low Density)
footprint RESC3216N (Chip Resistor, Body 3.2x1.6mm, IPC Medium Density)
footprint RESC1005L (Chip Resistor, Body 1.1x0.5mm, IPC High Density)
footprint RESC1005M (Chip Resistor, Body 1.1x0.5mm, IPC Low Density)
footprint RESC1005N (Chip Resistor, Body 1.1x0.5mm, IPC Medium Density)
footprint RESC4532L (Chip Resistor, Body 4.5x3.2mm, IPC High Density)
footprint RESC4532M (Chip Resistor, Body 4.5x3.2mm, IPC Low Density)
footprint RESC4532N (Chip Resistor, Body 4.5x3.2mm, IPC Medium Density)
footprint RESC3225L (Chip Resistor, Body 3.2x2.5mm, IPC High Density)
footprint RESC3225M (Chip Resistor, Body 3.2x2.5mm, IPC Low Density)
footprint RESC3225N (Chip Resistor, Body 3.2x2.5mm, IPC Medium Density)
footprint RESC6332N (Chip Resistor, Body 6.3x3.2mm, IPC Medium Density)
footprint RESC6332M (Chip Resistor, Body 6.3x3.2mm, IPC Low Density)
footprint RESC6332L (Chip Resistor, Body 6.3x3.2mm, IPC High Density)
pins: 1, 2

## RES_CHP_1
designator R?, comment 10K
Surface Mount Resistor
footprint RESC2012L (Chip Resistor, Body 2.0x1.3mm, IPC High Density)
footprint RESC2012M (Chip Resistor, Body 2.0x1.3mm, IPC Low Density)
footprint RESC2012N (Chip Resistor, Body 2.0x1.3mm, IPC Medium Density)
footprint RESC1608L (Chip Resistor, Body 1.6x0.8mm, IPC High Density)
footprint RESC1608M (Chip Resistor, Body 1.6x0.8mm, IPC Low Density)
footprint RESC1608N (Chip Resistor, Body 1.6x0.8mm, IPC Medium Density)
footprint RESC3216L (Chip Resistor, Body 3.2x1.6mm, IPC High Density)
footprint RESC3216M (Chip Resistor, Body 3.2x1.6mm, IPC Low Density)
footprint RESC3216N (Chip Resistor, Body 3.2x1.6mm, IPC Medium Density)
footprint RESC1005L (Chip Resistor, Body 1.1x0.5mm, IPC High Density)
footprint RESC1005M (Chip Resistor, Body 1.1x0.5mm, IPC Low Density)
footprint RESC1005N (Chip Resistor, Body 1.1x0.5mm, IPC Medium Density)
footprint RESC4532L (Chip Resistor, Body 4.5x3.2mm, IPC High Density)
footprint RESC4532M (Chip Resistor, Body 4.5x3.2mm, IPC Low Density)
footprint RESC4532N (Chip Resistor, Body 4.5x3.2mm, IPC Medium Density)
footprint RESC3225L (Chip Resistor, Body 3.2x2.5mm, IPC High Density)
footprint RESC3225M (Chip Resistor, Body 3.2x2.5mm, IPC Low Density)
footprint RESC3225N (Chip Resistor, Body 3.2x2.5mm, IPC Medium Density)
footprint RESC6332N (Chip Resistor, Body 6.3x3.2mm, IPC Medium Density)
footprint RESC6332M (Chip Resistor, Body 6.3x3.2mm, IPC Low Density)
footprint RESC6332L (Chip Resistor, Body 6.3x3.2mm, IPC High Density)
pins: 1, 2

## RES_CHP_2
designator R?, comment 0R
Surface Mount Resistor
footprint RESC2012L (Chip Resistor, Body 2.0x1.3mm, IPC High Density)
footprint RESC2012M (Chip Resistor, Body 2.0x1.3mm, IPC Low Density)
footprint RESC2012N (Chip Resistor, Body 2.0x1.3mm, IPC Medium Density)
footprint RESC1608L (Chip Resistor, Body 1.6x0.8mm, IPC High Density)
footprint RESC1608M (Chip Resistor, Body 1.6x0.8mm, IPC Low Density)
footprint RESC1608N (Chip Resistor, Body 1.6x0.8mm, IPC Medium Density)
footprint RESC3216L (Chip Resistor, Body 3.2x1.6mm, IPC High Density)
footprint RESC3216M (Chip Resistor, Body 3.2x1.6mm, IPC Low Density)
footprint RESC3216N (Chip Resistor, Body 3.2x1.6mm, IPC Medium Density)
footprint RESC1005L (Chip Resistor, Body 1.1x0.5mm, IPC High Density)
footprint RESC1005M (Chip Resistor, Body 1.1x0.5mm, IPC Low Density)
footprint RESC1005N (Chip Resistor, Body 1.1x0.5mm, IPC Medium Density)
footprint RESC4532L (Chip Resistor, Body 4.5x3.2mm, IPC High Density)
footprint RESC4532M (Chip Resistor, Body 4.5x3.2mm, IPC Low Density)
footprint RESC4532N (Chip Resistor, Body 4.5x3.2mm, IPC Medium Density)
footprint RESC3225L (Chip Resistor, Body 3.2x2.5mm, IPC High Density)
footprint RESC3225M (Chip Resistor, Body 3.2x2.5mm, IPC Low Density)
footprint RESC3225N (Chip Resistor, Body 3.2x2.5mm, IPC Medium Density)
footprint RESC6332N (Chip Resistor, Body 6.3x3.2mm, IPC Medium Density)
footprint RESC6332M (Chip Resistor, Body 6.3x3.2mm, IPC Low Density)
footprint RESC6332L (Chip Resistor, Body 6.3x3.2mm, IPC High Density)
footprint RESC0603L (Chip Resistor, Body 0.6x0.3mm, IPC High Density)
footprint RESC0603M (Chip Resistor, Body 0.6x0.3mm, IPC Low Density)
footprint RESC0603N (Chip Resistor, Body 0.6x0.3mm, IPC Medium Density)
pins: 1, 2

## RES_CHP_3
designator R?, comment 4K7
Surface Mount Resistor
footprint RESC2012L (Chip Resistor, Body 2.0x1.3mm, IPC High Density)
footprint RESC2012M (Chip Resistor, Body 2.0x1.3mm, IPC Low Density)
footprint RESC2012N (Chip Resistor, Body 2.0x1.3mm, IPC Medium Density)
footprint RESC1608L (Chip Resistor, Body 1.6x0.8mm, IPC High Density)
footprint RESC1608M (Chip Resistor, Body 1.6x0.8mm, IPC Low Density)
footprint RESC1608N (Chip Resistor, Body 1.6x0.8mm, IPC Medium Density)
footprint RESC3216L (Chip Resistor, Body 3.2x1.6mm, IPC High Density)
footprint RESC3216M (Chip Resistor, Body 3.2x1.6mm, IPC Low Density)
footprint RESC3216N (Chip Resistor, Body 3.2x1.6mm, IPC Medium Density)
footprint RESC1005L (Chip Resistor, Body 1.1x0.5mm, IPC High Density)
footprint RESC1005M (Chip Resistor, Body 1.1x0.5mm, IPC Low Density)
footprint RESC1005N (Chip Resistor, Body 1.1x0.5mm, IPC Medium Density)
footprint RESC4532L (Chip Resistor, Body 4.5x3.2mm, IPC High Density)
footprint RESC4532M (Chip Resistor, Body 4.5x3.2mm, IPC Low Density)
footprint RESC4532N (Chip Resistor, Body 4.5x3.2mm, IPC Medium Density)
footprint RESC3225L (Chip Resistor, Body 3.2x2.5mm, IPC High Density)
footprint RESC3225M (Chip Resistor, Body 3.2x2.5mm, IPC Low Density)
footprint RESC3225N (Chip Resistor, Body 3.2x2.5mm, IPC Medium Density)
footprint RESC6332N (Chip Resistor, Body 6.3x3.2mm, IPC Medium Density)
footprint RESC6332M (Chip Resistor, Body 6.3x3.2mm, IPC Low Density)
footprint RESC6332L (Chip Resistor, Body 6.3x3.2mm, IPC High Density)
pins: 1, 2

## RES_CHP_4
designator R?, comment 2K2
Surface Mount Resistor
footprint RESC2012L (Chip Resistor, Body 2.0x1.3mm, IPC High Density)
footprint RESC2012M (Chip Resistor, Body 2.0x1.3mm, IPC Low Density)
footprint RESC2012N (Chip Resistor, Body 2.0x1.3mm, IPC Medium Density)
footprint RESC1608L (Chip Resistor, Body 1.6x0.8mm, IPC High Density)
footprint RESC1608M (Chip Resistor, Body 1.6x0.8mm, IPC Low Density)
footprint RESC1608N (Chip Resistor, Body 1.6x0.8mm, IPC Medium Density)
footprint RESC3216L (Chip Resistor, Body 3.2x1.6mm, IPC High Density)
footprint RESC3216M (Chip Resistor, Body 3.2x1.6mm, IPC Low Density)
footprint RESC3216N (Chip Resistor, Body 3.2x1.6mm, IPC Medium Density)
footprint RESC1005L (Chip Resistor, Body 1.1x0.5mm, IPC High Density)
footprint RESC1005M (Chip Resistor, Body 1.1x0.5mm, IPC Low Density)
footprint RESC1005N (Chip Resistor, Body 1.1x0.5mm, IPC Medium Density)
footprint RESC4532L (Chip Resistor, Body 4.5x3.2mm, IPC High Density)
footprint RESC4532M (Chip Resistor, Body 4.5x3.2mm, IPC Low Density)
footprint RESC4532N (Chip Resistor, Body 4.5x3.2mm, IPC Medium Density)
footprint RESC3225L (Chip Resistor, Body 3.2x2.5mm, IPC High Density)
footprint RESC3225M (Chip Resistor, Body 3.2x2.5mm, IPC Low Density)
footprint RESC3225N (Chip Resistor, Body 3.2x2.5mm, IPC Medium Density)
footprint RESC6332N (Chip Resistor, Body 6.3x3.2mm, IPC Medium Density)
footprint RESC6332M (Chip Resistor, Body 6.3x3.2mm, IPC Low Density)
footprint RESC6332L (Chip Resistor, Body 6.3x3.2mm, IPC High Density)
pins: 1, 2

## Test_Point_Small
designator M?, comment Test_Point
footprint MARK_Small (MARK)
pins: 1

## TS-1088-AR02016
designator SW??  (value not drawn)
Manufacturer: XUNPU(讯普); Add into BOM: yes; Contact Current: 50mA; Voltage Rating (DC): 12V; Insulation Resistance: 100MΩ; Circuit: 单刀单掷; Actuator Style: 圆形按钮; Actuator/Cap Color: 黑色; Operating Force: 160gf@±50gf; Mechanical Life: 100000; Pin Style: SMD接片; Switch Length: 4mm; Switch Width: 3mm; Switch Height: 2mm; Strike Gundam: 否; Name: TS-1088-AR02016; Symbol: TS-1088-AR02016; Device: TS-1088-AR02016; LCSC Part Name: 3x4x2.0 160gf 贴片无柱轻触开关; Supplier Part: C720477; Manufacturer Part: TS-1088-AR02016; Supplier Footprint: SMD; JLCPCB Part Class: Extended Part; Datasheet: https://atta.szlcsc.com/upload/public/pdf/source/20200810/C720475_60D09DD6C54279ADDB2DC25100F1CC11.pdf; Supplier: LCSC; Convert to PCB: yes; Mounting Style: 立贴; Operating Temperature: -30℃~+80℃
footprint SW-SMD_L4.0-W2.9-LS5.0
pins: 1, 2

## TYPE-C-31-M-12
designator P?
USB Type-C Connector
footprint TYPE-C-31-M-12
pins: A1 GND, A4 VBUS, A5 CC1, A6 DP1, A7 DN1, A8 SBU1, A9 VBUS, A12 GND, B1 GND, B4 VBUS, B5 CC2, B6 DP2, B7 DN2, B8 SBU2, B9 VBUS, B12 GND, MH SHIELD, MH SHIELD, MH SHIELD, MH SHIELD

## USB-F-UUSB-SD064-5-NF
designator J?
Micro B USB 2.0 Receptacle Connector 5P SMD, Right Angle, Horizontal
footprint 10118193-0001LF
pins: 1 VBUS, 2 D-, 3 D+, 4 ID, 5 GND, 6 SHIELD